# EAGLE library part EXB-28VR000X (library maholli)
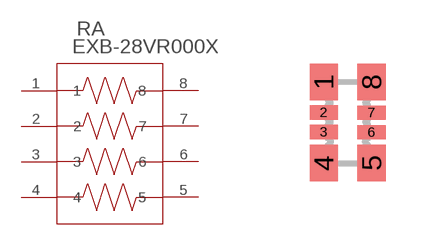
[diagram p22: symbol with the pads of C_ARRAY_EXB28V; footprint C_ARRAY_EXB28V]

Designator prefix RA

## EXB-28VR000X (MANUFACTURER_PART_NUMBER: EXB28VR000X; VENDOR: Panasonic)  [C_ARRAY_EXB28V]
1  1  pas
2  2  pas
3  3  pas
4  4  pas
5  5  pas
6  6  pas
7  7  pas
8  8  pas

## Footprint C_ARRAY_EXB28V (pad centres in mm)
smd 0.707 x 0.914: 1 -0.599,1.016; 4 -0.599,-1.016; 5 0.599,-1.016; 8 0.599,1.016
smd 0.707 x 0.356: 2 -0.599,0.248; 3 -0.599,-0.241; 6 0.599,-0.248; 7 0.599,0.241